# Altium footprint library FZ2812-5050.PcbLib: 1 footprints
Each footprint in its own frame and in the unit in brackets; x right, y up, seen from the top. Pads: shape width x height; smd on the part's side, far side on the other; paste and mask are expansions set on the pad; w line width, h text height; cw(c..) or ccw(c..) is an arc to the next point about the centre after c.
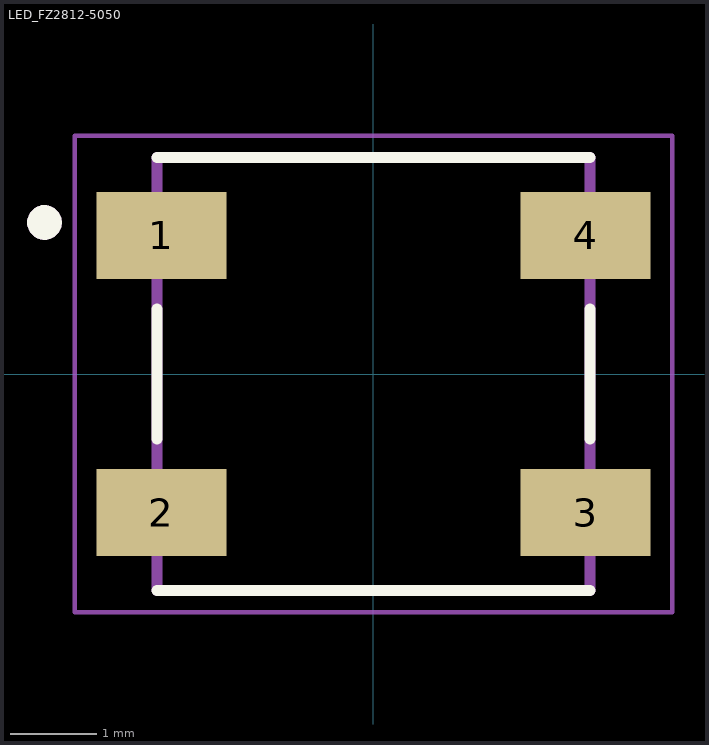
[diagram p0: the footprint, top view; thin cyan lines are the x and y axes]

## LED_FZ2812-5050 [mm]
pads (4):
  rect 1.5x1 smd: 1(-2.45,1.6) 2(-2.45,-1.6) 3(2.45,-1.6) 4(2.45,1.6)
Top Overlay:
  circle w0.2: c-3.8,1.75 r0.1
  lines w0.127: -2.5,-2.5 2.5,-2.5 ; -2.5,-0.75 -2.5,0.75 ; -2.5,2.5 2.5,2.5 ; 2.5,-0.75 2.5,0.75
Mechanical 13:
  circle w0.2: c-3.8,1.75 r0.1
  lines w0.127: -2.5,-2.5 2.5,-2.5 2.5,2.5 -2.5,2.5 -2.5,-2.5
Mechanical 15:
  lines w0.05: -3.45,-2.75 3.45,-2.75 3.45,2.75 -3.45,2.75 -3.45,-2.75